# Altium footprint library Actel Footprints.PcbLib: 111 footprints (part 3 of 10)
Each footprint in its own frame and in the unit in brackets; x right, y up, seen from the top. Pads: shape width x height; smd on the part's side, far side on the other; paste and mask are expansions set on the pad; w line width, h text height; cw(c..) or ccw(c..) is an arc to the next point about the centre after c.
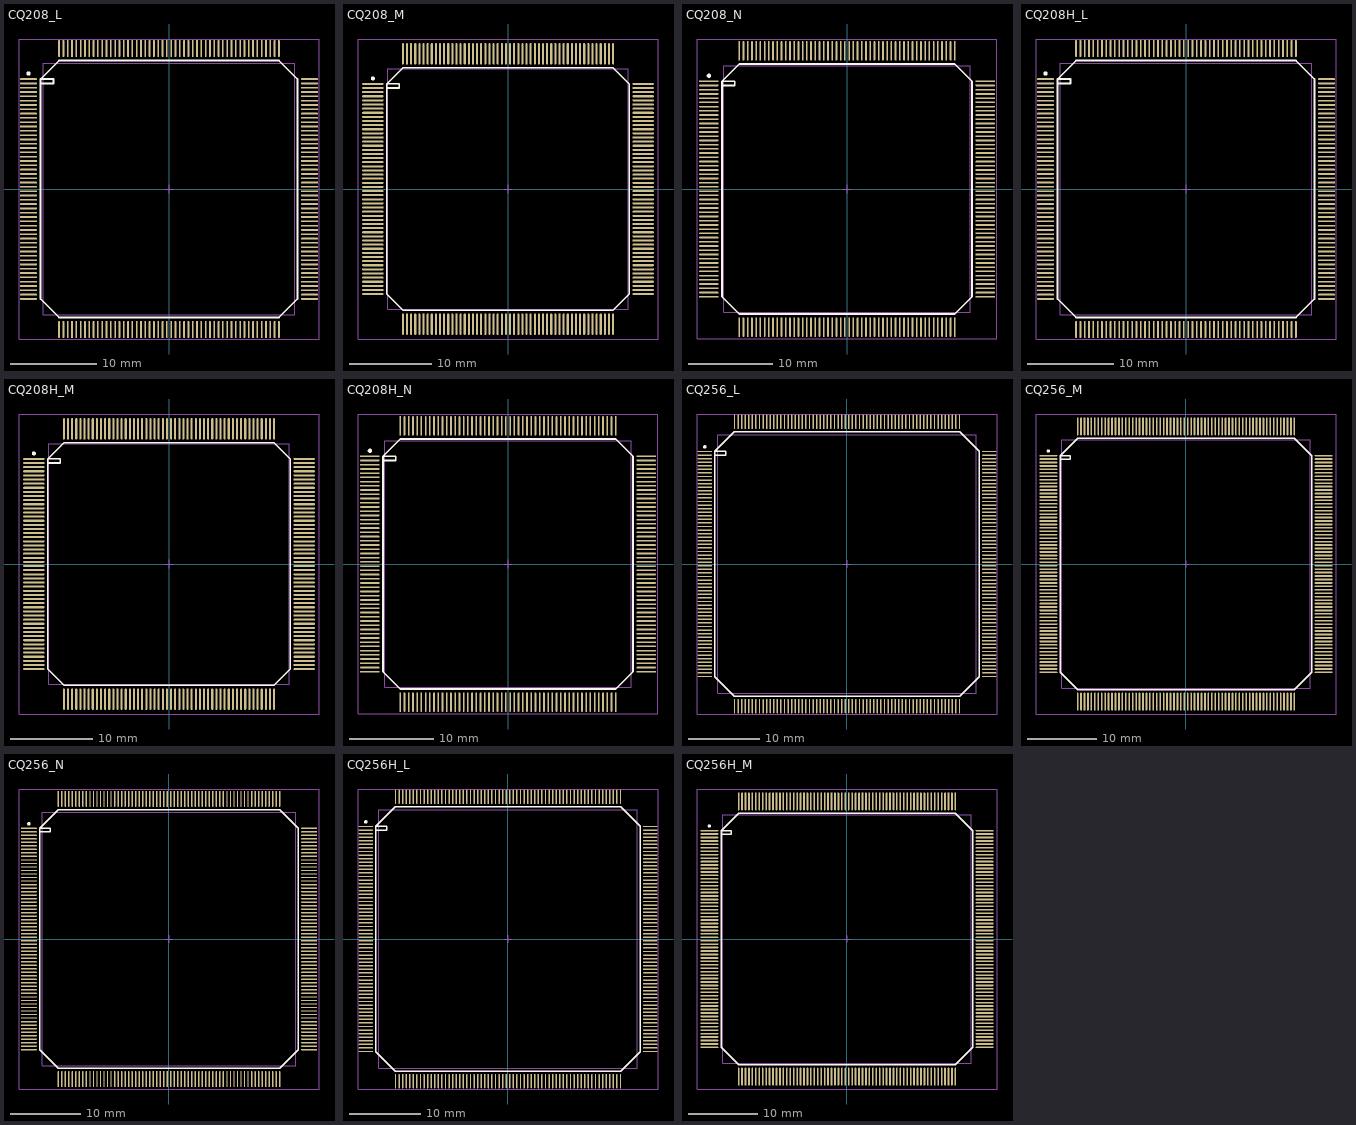
[diagram p2: the footprints below, top view; thin cyan lines are the x and y axes]

## CQ208_L [mm] "208-Pin Ceramic Quad Flat Pack (CQFP), IPC High Density"
height 3.3
pads (208):
  oval 2x0.2 smd: 1(-16.3,12.75) 2(-16.3,12.25) 3(-16.3,11.75) 4(-16.3,11.25) 5(-16.3,10.75) 6(-16.3,10.25) 7(-16.3,9.75) 8(-16.3,9.25) 9(-16.3,8.75) 10(-16.3,8.25) 11(-16.3,7.75) 12(-16.3,7.25) 13(-16.3,6.75) 14(-16.3,6.25) 15(-16.3,5.75) 16(-16.3,5.25) 17(-16.3,4.75) 18(-16.3,4.25) 19(-16.3,3.75) 20(-16.3,3.25) 21(-16.3,2.75) 22(-16.3,2.25) 23(-16.3,1.75) 24(-16.3,1.25) 25(-16.3,0.75) 26(-16.3,0.25) 27(-16.3,-0.25) 28(-16.3,-0.75) 29(-16.3,-1.25) 30(-16.3,-1.75) 31(-16.3,-2.25) 32(-16.3,-2.75) 33(-16.3,-3.25) 34(-16.3,-3.75) 35(-16.3,-4.25) 36(-16.3,-4.75) 37(-16.3,-5.25) 38(-16.3,-5.75) 39(-16.3,-6.25) 40(-16.3,-6.75) 41(-16.3,-7.25) 42(-16.3,-7.75) 43(-16.3,-8.25) 44(-16.3,-8.75) 45(-16.3,-9.25) 46(-16.3,-9.75) 47(-16.3,-10.25) 48(-16.3,-10.75) 49(-16.3,-11.25) 50(-16.3,-11.75) 51(-16.3,-12.25) 52(-16.3,-12.75) 105(16.3,-12.75) 106(16.3,-12.25) 107(16.3,-11.75) 108(16.3,-11.25) 109(16.3,-10.75) 110(16.3,-10.25) 111(16.3,-9.75) 112(16.3,-9.25) 113(16.3,-8.75) 114(16.3,-8.25) 115(16.3,-7.75) 116(16.3,-7.25) 117(16.3,-6.75) 118(16.3,-6.25) 119(16.3,-5.75) 120(16.3,-5.25) 121(16.3,-4.75) 122(16.3,-4.25) 123(16.3,-3.75) 124(16.3,-3.25) 125(16.3,-2.75) 126(16.3,-2.25) 127(16.3,-1.75) 128(16.3,-1.25) 129(16.3,-0.75) 130(16.3,-0.25) 131(16.3,0.25) 132(16.3,0.75) 133(16.3,1.25) 134(16.3,1.75) 135(16.3,2.25) 136(16.3,2.75) 137(16.3,3.25) 138(16.3,3.75) 139(16.3,4.25) 140(16.3,4.75) 141(16.3,5.25) 142(16.3,5.75) 143(16.3,6.25) 144(16.3,6.75) 145(16.3,7.25) 146(16.3,7.75) 147(16.3,8.25) 148(16.3,8.75) 149(16.3,9.25) 150(16.3,9.75) 151(16.3,10.25) 152(16.3,10.75) 153(16.3,11.25) 154(16.3,11.75) 155(16.3,12.25) 156(16.3,12.75)
  oval 0.2x2 smd: 53(-12.75,-16.3) 54(-12.25,-16.3) 55(-11.75,-16.3) 56(-11.25,-16.3) 57(-10.75,-16.3) 58(-10.25,-16.3) 59(-9.75,-16.3) 60(-9.25,-16.3) 61(-8.75,-16.3) 62(-8.25,-16.3) 63(-7.75,-16.3) 64(-7.25,-16.3) 65(-6.75,-16.3) 66(-6.25,-16.3) 67(-5.75,-16.3) 68(-5.25,-16.3) 69(-4.75,-16.3) 70(-4.25,-16.3) 71(-3.75,-16.3) 72(-3.25,-16.3) 73(-2.75,-16.3) 74(-2.25,-16.3) 75(-1.75,-16.3) 76(-1.25,-16.3) 77(-0.75,-16.3) 78(-0.25,-16.3) 79(0.25,-16.3) 80(0.75,-16.3) 81(1.25,-16.3) 82(1.75,-16.3) 83(2.25,-16.3) 84(2.75,-16.3) 85(3.25,-16.3) 86(3.75,-16.3) 87(4.25,-16.3) 88(4.75,-16.3) 89(5.25,-16.3) 90(5.75,-16.3) 91(6.25,-16.3) 92(6.75,-16.3) 93(7.25,-16.3) 94(7.75,-16.3) 95(8.25,-16.3) 96(8.75,-16.3) 97(9.25,-16.3) 98(9.75,-16.3) 99(10.25,-16.3) 100(10.75,-16.3) 101(11.25,-16.3) 102(11.75,-16.3) 103(12.25,-16.3) 104(12.75,-16.3) 157(12.75,16.3) 158(12.25,16.3) 159(11.75,16.3) 160(11.25,16.3) 161(10.75,16.3) 162(10.25,16.3) 163(9.75,16.3) 164(9.25,16.3) 165(8.75,16.3) 166(8.25,16.3) 167(7.75,16.3) 168(7.25,16.3) 169(6.75,16.3) 170(6.25,16.3) 171(5.75,16.3) 172(5.25,16.3) 173(4.75,16.3) 174(4.25,16.3) 175(3.75,16.3) 176(3.25,16.3) 177(2.75,16.3) 178(2.25,16.3) 179(1.75,16.3) 180(1.25,16.3) 181(0.75,16.3) 182(0.25,16.3) 183(-0.25,16.3) 184(-0.75,16.3) 185(-1.25,16.3) 186(-1.75,16.3) 187(-2.25,16.3) 188(-2.75,16.3) 189(-3.25,16.3) 190(-3.75,16.3) 191(-4.25,16.3) 192(-4.75,16.3) 193(-5.25,16.3) 194(-5.75,16.3) 195(-6.25,16.3) 196(-6.75,16.3) 197(-7.25,16.3) 198(-7.75,16.3) 199(-8.25,16.3) 200(-8.75,16.3) 201(-9.25,16.3) 202(-9.75,16.3) 203(-10.25,16.3) 204(-10.75,16.3) 205(-11.25,16.3) 206(-11.75,16.3) 207(-12.25,16.3) 208(-12.75,16.3)
Top Overlay:
  circle w0.25: c-16.3,13.4 r0.125
  lines w0.2: -14.9,12.25 -13.4,12.25 -13.4,12.75 -14.9,12.75 ; -14.9,12.75 -14.9,-12.75 -12.75,-14.9 12.75,-14.9 14.9,-12.75 14.9,12.75 12.75,14.9 -12.75,14.9 -14.9,12.75
Mechanical 13:
  lines w0.1: -14.605,-14.605 -14.605,14.605 14.605,14.605 14.605,-14.605 -14.605,-14.605
Mechanical 15:
  lines w0.1: -0.5,0 0.5,0 ; 0,-0.5 0,0.5 ; -17.4,-17.4 -17.4,17.4 17.4,17.4 17.4,-17.4 -17.4,-17.4
3D body: height 3.3, standoff 0, extent -14.605,-14.605 14.605,14.605

## CQ208_M [mm] "208-Pin Ceramic Quad Flat Pack (CQFP), IPC Low Density"
height 3.3
pads (208):
  oval 2.6x0.25 smd: 1(-16.4,12.75) 2(-16.4,12.25) 3(-16.4,11.75) 4(-16.4,11.25) 5(-16.4,10.75) 6(-16.4,10.25) 7(-16.4,9.75) 8(-16.4,9.25) 9(-16.4,8.75) 10(-16.4,8.25) 11(-16.4,7.75) 12(-16.4,7.25) 13(-16.4,6.75) 14(-16.4,6.25) 15(-16.4,5.75) 16(-16.4,5.25) 17(-16.4,4.75) 18(-16.4,4.25) 19(-16.4,3.75) 20(-16.4,3.25) 21(-16.4,2.75) 22(-16.4,2.25) 23(-16.4,1.75) 24(-16.4,1.25) 25(-16.4,0.75) 26(-16.4,0.25) 27(-16.4,-0.25) 28(-16.4,-0.75) 29(-16.4,-1.25) 30(-16.4,-1.75) 31(-16.4,-2.25) 32(-16.4,-2.75) 33(-16.4,-3.25) 34(-16.4,-3.75) 35(-16.4,-4.25) 36(-16.4,-4.75) 37(-16.4,-5.25) 38(-16.4,-5.75) 39(-16.4,-6.25) 40(-16.4,-6.75) 41(-16.4,-7.25) 42(-16.4,-7.75) 43(-16.4,-8.25) 44(-16.4,-8.75) 45(-16.4,-9.25) 46(-16.4,-9.75) 47(-16.4,-10.25) 48(-16.4,-10.75) 49(-16.4,-11.25) 50(-16.4,-11.75) 51(-16.4,-12.25) 52(-16.4,-12.75) 105(16.4,-12.75) 106(16.4,-12.25) 107(16.4,-11.75) 108(16.4,-11.25) 109(16.4,-10.75) 110(16.4,-10.25) 111(16.4,-9.75) 112(16.4,-9.25) 113(16.4,-8.75) 114(16.4,-8.25) 115(16.4,-7.75) 116(16.4,-7.25) 117(16.4,-6.75) 118(16.4,-6.25) 119(16.4,-5.75) 120(16.4,-5.25) 121(16.4,-4.75) 122(16.4,-4.25) 123(16.4,-3.75) 124(16.4,-3.25) 125(16.4,-2.75) 126(16.4,-2.25) 127(16.4,-1.75) 128(16.4,-1.25) 129(16.4,-0.75) 130(16.4,-0.25) 131(16.4,0.25) 132(16.4,0.75) 133(16.4,1.25) 134(16.4,1.75) 135(16.4,2.25) 136(16.4,2.75) 137(16.4,3.25) 138(16.4,3.75) 139(16.4,4.25) 140(16.4,4.75) 141(16.4,5.25) 142(16.4,5.75) 143(16.4,6.25) 144(16.4,6.75) 145(16.4,7.25) 146(16.4,7.75) 147(16.4,8.25) 148(16.4,8.75) 149(16.4,9.25) 150(16.4,9.75) 151(16.4,10.25) 152(16.4,10.75) 153(16.4,11.25) 154(16.4,11.75) 155(16.4,12.25) 156(16.4,12.75)
  oval 0.25x2.6 smd: 53(-12.75,-16.4) 54(-12.25,-16.4) 55(-11.75,-16.4) 56(-11.25,-16.4) 57(-10.75,-16.4) 58(-10.25,-16.4) 59(-9.75,-16.4) 60(-9.25,-16.4) 61(-8.75,-16.4) 62(-8.25,-16.4) 63(-7.75,-16.4) 64(-7.25,-16.4) 65(-6.75,-16.4) 66(-6.25,-16.4) 67(-5.75,-16.4) 68(-5.25,-16.4) 69(-4.75,-16.4) 70(-4.25,-16.4) 71(-3.75,-16.4) 72(-3.25,-16.4) 73(-2.75,-16.4) 74(-2.25,-16.4) 75(-1.75,-16.4) 76(-1.25,-16.4) 77(-0.75,-16.4) 78(-0.25,-16.4) 79(0.25,-16.4) 80(0.75,-16.4) 81(1.25,-16.4) 82(1.75,-16.4) 83(2.25,-16.4) 84(2.75,-16.4) 85(3.25,-16.4) 86(3.75,-16.4) 87(4.25,-16.4) 88(4.75,-16.4) 89(5.25,-16.4) 90(5.75,-16.4) 91(6.25,-16.4) 92(6.75,-16.4) 93(7.25,-16.4) 94(7.75,-16.4) 95(8.25,-16.4) 96(8.75,-16.4) 97(9.25,-16.4) 98(9.75,-16.4) 99(10.25,-16.4) 100(10.75,-16.4) 101(11.25,-16.4) 102(11.75,-16.4) 103(12.25,-16.4) 104(12.75,-16.4) 157(12.75,16.4) 158(12.25,16.4) 159(11.75,16.4) 160(11.25,16.4) 161(10.75,16.4) 162(10.25,16.4) 163(9.75,16.4) 164(9.25,16.4) 165(8.75,16.4) 166(8.25,16.4) 167(7.75,16.4) 168(7.25,16.4) 169(6.75,16.4) 170(6.25,16.4) 171(5.75,16.4) 172(5.25,16.4) 173(4.75,16.4) 174(4.25,16.4) 175(3.75,16.4) 176(3.25,16.4) 177(2.75,16.4) 178(2.25,16.4) 179(1.75,16.4) 180(1.25,16.4) 181(0.75,16.4) 182(0.25,16.4) 183(-0.25,16.4) 184(-0.75,16.4) 185(-1.25,16.4) 186(-1.75,16.4) 187(-2.25,16.4) 188(-2.75,16.4) 189(-3.25,16.4) 190(-3.75,16.4) 191(-4.25,16.4) 192(-4.75,16.4) 193(-5.25,16.4) 194(-5.75,16.4) 195(-6.25,16.4) 196(-6.75,16.4) 197(-7.25,16.4) 198(-7.75,16.4) 199(-8.25,16.4) 200(-8.75,16.4) 201(-9.25,16.4) 202(-9.75,16.4) 203(-10.25,16.4) 204(-10.75,16.4) 205(-11.25,16.4) 206(-11.75,16.4) 207(-12.25,16.4) 208(-12.75,16.4)
Top Overlay:
  circle w0.25: c-16.4,13.425 r0.125
  lines w0.2: -14.7,12.25 -13.2,12.25 -13.2,12.75 -14.7,12.75 ; -14.7,12.75 -14.7,-12.75 -12.75,-14.7 12.75,-14.7 14.7,-12.75 14.7,12.75 12.75,14.7 -12.75,14.7 -14.7,12.75
Mechanical 13:
  lines w0.1: -14.605,-14.605 -14.605,14.605 14.605,14.605 14.605,-14.605 -14.605,-14.605
Mechanical 15:
  lines w0.1: -0.5,0 0.5,0 ; 0,-0.5 0,0.5 ; -18.2,-18.2 -18.2,18.2 18.2,18.2 18.2,-18.2 -18.2,-18.2
3D body: height 3.3, standoff 0, extent -14.605,-14.605 14.605,14.605

## CQ208_N [mm] "208-Pin Ceramic Quad Flat Pack (CQFP), IPC Medium Density"
height 3.3
pads (208):
  oval 2.3x0.2 smd: 1(-16.35,12.75) 2(-16.35,12.25) 3(-16.35,11.75) 4(-16.35,11.25) 5(-16.35,10.75) 6(-16.35,10.25) 7(-16.35,9.75) 8(-16.35,9.25) 9(-16.35,8.75) 10(-16.35,8.25) 11(-16.35,7.75) 12(-16.35,7.25) 13(-16.35,6.75) 14(-16.35,6.25) 15(-16.35,5.75) 16(-16.35,5.25) 17(-16.35,4.75) 18(-16.35,4.25) 19(-16.35,3.75) 20(-16.35,3.25) 21(-16.35,2.75) 22(-16.35,2.25) 23(-16.35,1.75) 24(-16.35,1.25) 25(-16.35,0.75) 26(-16.35,0.25) 27(-16.35,-0.25) 28(-16.35,-0.75) 29(-16.35,-1.25) 30(-16.35,-1.75) 31(-16.35,-2.25) 32(-16.35,-2.75) 33(-16.35,-3.25) 34(-16.35,-3.75) 35(-16.35,-4.25) 36(-16.35,-4.75) 37(-16.35,-5.25) 38(-16.35,-5.75) 39(-16.35,-6.25) 40(-16.35,-6.75) 41(-16.35,-7.25) 42(-16.35,-7.75) 43(-16.35,-8.25) 44(-16.35,-8.75) 45(-16.35,-9.25) 46(-16.35,-9.75) 47(-16.35,-10.25) 48(-16.35,-10.75) 49(-16.35,-11.25) 50(-16.35,-11.75) 51(-16.35,-12.25) 52(-16.35,-12.75) 105(16.35,-12.75) 106(16.35,-12.25) 107(16.35,-11.75) 108(16.35,-11.25) 109(16.35,-10.75) 110(16.35,-10.25) 111(16.35,-9.75) 112(16.35,-9.25) 113(16.35,-8.75) 114(16.35,-8.25) 115(16.35,-7.75) 116(16.35,-7.25) 117(16.35,-6.75) 118(16.35,-6.25) 119(16.35,-5.75) 120(16.35,-5.25) 121(16.35,-4.75) 122(16.35,-4.25) 123(16.35,-3.75) 124(16.35,-3.25) 125(16.35,-2.75) 126(16.35,-2.25) 127(16.35,-1.75) 128(16.35,-1.25) 129(16.35,-0.75) 130(16.35,-0.25) 131(16.35,0.25) 132(16.35,0.75) 133(16.35,1.25) 134(16.35,1.75) 135(16.35,2.25) 136(16.35,2.75) 137(16.35,3.25) 138(16.35,3.75) 139(16.35,4.25) 140(16.35,4.75) 141(16.35,5.25) 142(16.35,5.75) 143(16.35,6.25) 144(16.35,6.75) 145(16.35,7.25) 146(16.35,7.75) 147(16.35,8.25) 148(16.35,8.75) 149(16.35,9.25) 150(16.35,9.75) 151(16.35,10.25) 152(16.35,10.75) 153(16.35,11.25) 154(16.35,11.75) 155(16.35,12.25) 156(16.35,12.75)
  oval 0.2x2.3 smd: 53(-12.75,-16.35) 54(-12.25,-16.35) 55(-11.75,-16.35) 56(-11.25,-16.35) 57(-10.75,-16.35) 58(-10.25,-16.35) 59(-9.75,-16.35) 60(-9.25,-16.35) 61(-8.75,-16.35) 62(-8.25,-16.35) 63(-7.75,-16.35) 64(-7.25,-16.35) 65(-6.75,-16.35) 66(-6.25,-16.35) 67(-5.75,-16.35) 68(-5.25,-16.35) 69(-4.75,-16.35) 70(-4.25,-16.35) 71(-3.75,-16.35) 72(-3.25,-16.35) 73(-2.75,-16.35) 74(-2.25,-16.35) 75(-1.75,-16.35) 76(-1.25,-16.35) 77(-0.75,-16.35) 78(-0.25,-16.35) 79(0.25,-16.35) 80(0.75,-16.35) 81(1.25,-16.35) 82(1.75,-16.35) 83(2.25,-16.35) 84(2.75,-16.35) 85(3.25,-16.35) 86(3.75,-16.35) 87(4.25,-16.35) 88(4.75,-16.35) 89(5.25,-16.35) 90(5.75,-16.35) 91(6.25,-16.35) 92(6.75,-16.35) 93(7.25,-16.35) 94(7.75,-16.35) 95(8.25,-16.35) 96(8.75,-16.35) 97(9.25,-16.35) 98(9.75,-16.35) 99(10.25,-16.35) 100(10.75,-16.35) 101(11.25,-16.35) 102(11.75,-16.35) 103(12.25,-16.35) 104(12.75,-16.35) 157(12.75,16.35) 158(12.25,16.35) 159(11.75,16.35) 160(11.25,16.35) 161(10.75,16.35) 162(10.25,16.35) 163(9.75,16.35) 164(9.25,16.35) 165(8.75,16.35) 166(8.25,16.35) 167(7.75,16.35) 168(7.25,16.35) 169(6.75,16.35) 170(6.25,16.35) 171(5.75,16.35) 172(5.25,16.35) 173(4.75,16.35) 174(4.25,16.35) 175(3.75,16.35) 176(3.25,16.35) 177(2.75,16.35) 178(2.25,16.35) 179(1.75,16.35) 180(1.25,16.35) 181(0.75,16.35) 182(0.25,16.35) 183(-0.25,16.35) 184(-0.75,16.35) 185(-1.25,16.35) 186(-1.75,16.35) 187(-2.25,16.35) 188(-2.75,16.35) 189(-3.25,16.35) 190(-3.75,16.35) 191(-4.25,16.35) 192(-4.75,16.35) 193(-5.25,16.35) 194(-5.75,16.35) 195(-6.25,16.35) 196(-6.75,16.35) 197(-7.25,16.35) 198(-7.75,16.35) 199(-8.25,16.35) 200(-8.75,16.35) 201(-9.25,16.35) 202(-9.75,16.35) 203(-10.25,16.35) 204(-10.75,16.35) 205(-11.25,16.35) 206(-11.75,16.35) 207(-12.25,16.35) 208(-12.75,16.35)
Top Overlay:
  circle w0.25: c-16.35,13.4 r0.125
  lines w0.2: -14.8,12.25 -13.3,12.25 -13.3,12.75 -14.8,12.75 ; -14.8,12.75 -14.8,-12.75 -12.75,-14.8 12.75,-14.8 14.8,-12.75 14.8,12.75 12.75,14.8 -12.75,14.8 -14.8,12.75
Mechanical 13:
  lines w0.1: -14.605,-14.605 -14.605,14.605 14.605,14.605 14.605,-14.605 -14.605,-14.605
Mechanical 15:
  lines w0.1: -0.5,0 0.5,0 ; 0,-0.5 0,0.5 ; -17.75,-17.75 -17.75,17.75 17.75,17.75 17.75,-17.75 -17.75,-17.75
3D body: height 3.3, standoff 0, extent -14.605,-14.605 14.605,14.605

## CQ208H_L [mm] "208-Pin Ceramic Quad Flat Pack (CQFP) with Heat Sink, IPC High Density"
height 3.9
pads (208):
  oval 2x0.2 smd: 1(-16.3,12.75) 2(-16.3,12.25) 3(-16.3,11.75) 4(-16.3,11.25) 5(-16.3,10.75) 6(-16.3,10.25) 7(-16.3,9.75) 8(-16.3,9.25) 9(-16.3,8.75) 10(-16.3,8.25) 11(-16.3,7.75) 12(-16.3,7.25) 13(-16.3,6.75) 14(-16.3,6.25) 15(-16.3,5.75) 16(-16.3,5.25) 17(-16.3,4.75) 18(-16.3,4.25) 19(-16.3,3.75) 20(-16.3,3.25) 21(-16.3,2.75) 22(-16.3,2.25) 23(-16.3,1.75) 24(-16.3,1.25) 25(-16.3,0.75) 26(-16.3,0.25) 27(-16.3,-0.25) 28(-16.3,-0.75) 29(-16.3,-1.25) 30(-16.3,-1.75) 31(-16.3,-2.25) 32(-16.3,-2.75) 33(-16.3,-3.25) 34(-16.3,-3.75) 35(-16.3,-4.25) 36(-16.3,-4.75) 37(-16.3,-5.25) 38(-16.3,-5.75) 39(-16.3,-6.25) 40(-16.3,-6.75) 41(-16.3,-7.25) 42(-16.3,-7.75) 43(-16.3,-8.25) 44(-16.3,-8.75) 45(-16.3,-9.25) 46(-16.3,-9.75) 47(-16.3,-10.25) 48(-16.3,-10.75) 49(-16.3,-11.25) 50(-16.3,-11.75) 51(-16.3,-12.25) 52(-16.3,-12.75) 105(16.3,-12.75) 106(16.3,-12.25) 107(16.3,-11.75) 108(16.3,-11.25) 109(16.3,-10.75) 110(16.3,-10.25) 111(16.3,-9.75) 112(16.3,-9.25) 113(16.3,-8.75) 114(16.3,-8.25) 115(16.3,-7.75) 116(16.3,-7.25) 117(16.3,-6.75) 118(16.3,-6.25) 119(16.3,-5.75) 120(16.3,-5.25) 121(16.3,-4.75) 122(16.3,-4.25) 123(16.3,-3.75) 124(16.3,-3.25) 125(16.3,-2.75) 126(16.3,-2.25) 127(16.3,-1.75) 128(16.3,-1.25) 129(16.3,-0.75) 130(16.3,-0.25) 131(16.3,0.25) 132(16.3,0.75) 133(16.3,1.25) 134(16.3,1.75) 135(16.3,2.25) 136(16.3,2.75) 137(16.3,3.25) 138(16.3,3.75) 139(16.3,4.25) 140(16.3,4.75) 141(16.3,5.25) 142(16.3,5.75) 143(16.3,6.25) 144(16.3,6.75) 145(16.3,7.25) 146(16.3,7.75) 147(16.3,8.25) 148(16.3,8.75) 149(16.3,9.25) 150(16.3,9.75) 151(16.3,10.25) 152(16.3,10.75) 153(16.3,11.25) 154(16.3,11.75) 155(16.3,12.25) 156(16.3,12.75)
  oval 0.2x2 smd: 53(-12.75,-16.3) 54(-12.25,-16.3) 55(-11.75,-16.3) 56(-11.25,-16.3) 57(-10.75,-16.3) 58(-10.25,-16.3) 59(-9.75,-16.3) 60(-9.25,-16.3) 61(-8.75,-16.3) 62(-8.25,-16.3) 63(-7.75,-16.3) 64(-7.25,-16.3) 65(-6.75,-16.3) 66(-6.25,-16.3) 67(-5.75,-16.3) 68(-5.25,-16.3) 69(-4.75,-16.3) 70(-4.25,-16.3) 71(-3.75,-16.3) 72(-3.25,-16.3) 73(-2.75,-16.3) 74(-2.25,-16.3) 75(-1.75,-16.3) 76(-1.25,-16.3) 77(-0.75,-16.3) 78(-0.25,-16.3) 79(0.25,-16.3) 80(0.75,-16.3) 81(1.25,-16.3) 82(1.75,-16.3) 83(2.25,-16.3) 84(2.75,-16.3) 85(3.25,-16.3) 86(3.75,-16.3) 87(4.25,-16.3) 88(4.75,-16.3) 89(5.25,-16.3) 90(5.75,-16.3) 91(6.25,-16.3) 92(6.75,-16.3) 93(7.25,-16.3) 94(7.75,-16.3) 95(8.25,-16.3) 96(8.75,-16.3) 97(9.25,-16.3) 98(9.75,-16.3) 99(10.25,-16.3) 100(10.75,-16.3) 101(11.25,-16.3) 102(11.75,-16.3) 103(12.25,-16.3) 104(12.75,-16.3) 157(12.75,16.3) 158(12.25,16.3) 159(11.75,16.3) 160(11.25,16.3) 161(10.75,16.3) 162(10.25,16.3) 163(9.75,16.3) 164(9.25,16.3) 165(8.75,16.3) 166(8.25,16.3) 167(7.75,16.3) 168(7.25,16.3) 169(6.75,16.3) 170(6.25,16.3) 171(5.75,16.3) 172(5.25,16.3) 173(4.75,16.3) 174(4.25,16.3) 175(3.75,16.3) 176(3.25,16.3) 177(2.75,16.3) 178(2.25,16.3) 179(1.75,16.3) 180(1.25,16.3) 181(0.75,16.3) 182(0.25,16.3) 183(-0.25,16.3) 184(-0.75,16.3) 185(-1.25,16.3) 186(-1.75,16.3) 187(-2.25,16.3) 188(-2.75,16.3) 189(-3.25,16.3) 190(-3.75,16.3) 191(-4.25,16.3) 192(-4.75,16.3) 193(-5.25,16.3) 194(-5.75,16.3) 195(-6.25,16.3) 196(-6.75,16.3) 197(-7.25,16.3) 198(-7.75,16.3) 199(-8.25,16.3) 200(-8.75,16.3) 201(-9.25,16.3) 202(-9.75,16.3) 203(-10.25,16.3) 204(-10.75,16.3) 205(-11.25,16.3) 206(-11.75,16.3) 207(-12.25,16.3) 208(-12.75,16.3)
Top Overlay:
  circle w0.25: c-16.3,13.4 r0.125
  lines w0.2: -14.9,12.25 -13.4,12.25 -13.4,12.75 -14.9,12.75 ; -14.9,12.75 -12.75,14.9 12.75,14.9 14.9,12.75 14.9,-12.75 12.75,-14.9 -12.75,-14.9 -14.9,-12.75 -14.9,12.75
Mechanical 13:
  lines w0.1: -14.605,-14.605 14.605,-14.605 14.605,14.605 -14.605,14.605 -14.605,-14.605
Mechanical 15:
  lines w0.1: -0.5,0 0.5,0 ; 0,-0.5 0,0.5 ; -17.4,-17.4 17.4,-17.4 17.4,17.4 -17.4,17.4 -17.4,-17.4
3D body: height 3.9, standoff 0, extent -14.605,-14.605 14.605,14.605

## CQ208H_M [mm] "208-Pin Ceramic Quad Flat Pack (CQFP) with Heat Sink, IPC Low Density"
height 3.9
pads (208):
  oval 2.6x0.25 smd: 1(-16.4,12.75) 2(-16.4,12.25) 3(-16.4,11.75) 4(-16.4,11.25) 5(-16.4,10.75) 6(-16.4,10.25) 7(-16.4,9.75) 8(-16.4,9.25) 9(-16.4,8.75) 10(-16.4,8.25) 11(-16.4,7.75) 12(-16.4,7.25) 13(-16.4,6.75) 14(-16.4,6.25) 15(-16.4,5.75) 16(-16.4,5.25) 17(-16.4,4.75) 18(-16.4,4.25) 19(-16.4,3.75) 20(-16.4,3.25) 21(-16.4,2.75) 22(-16.4,2.25) 23(-16.4,1.75) 24(-16.4,1.25) 25(-16.4,0.75) 26(-16.4,0.25) 27(-16.4,-0.25) 28(-16.4,-0.75) 29(-16.4,-1.25) 30(-16.4,-1.75) 31(-16.4,-2.25) 32(-16.4,-2.75) 33(-16.4,-3.25) 34(-16.4,-3.75) 35(-16.4,-4.25) 36(-16.4,-4.75) 37(-16.4,-5.25) 38(-16.4,-5.75) 39(-16.4,-6.25) 40(-16.4,-6.75) 41(-16.4,-7.25) 42(-16.4,-7.75) 43(-16.4,-8.25) 44(-16.4,-8.75) 45(-16.4,-9.25) 46(-16.4,-9.75) 47(-16.4,-10.25) 48(-16.4,-10.75) 49(-16.4,-11.25) 50(-16.4,-11.75) 51(-16.4,-12.25) 52(-16.4,-12.75) 105(16.4,-12.75) 106(16.4,-12.25) 107(16.4,-11.75) 108(16.4,-11.25) 109(16.4,-10.75) 110(16.4,-10.25) 111(16.4,-9.75) 112(16.4,-9.25) 113(16.4,-8.75) 114(16.4,-8.25) 115(16.4,-7.75) 116(16.4,-7.25) 117(16.4,-6.75) 118(16.4,-6.25) 119(16.4,-5.75) 120(16.4,-5.25) 121(16.4,-4.75) 122(16.4,-4.25) 123(16.4,-3.75) 124(16.4,-3.25) 125(16.4,-2.75) 126(16.4,-2.25) 127(16.4,-1.75) 128(16.4,-1.25) 129(16.4,-0.75) 130(16.4,-0.25) 131(16.4,0.25) 132(16.4,0.75) 133(16.4,1.25) 134(16.4,1.75) 135(16.4,2.25) 136(16.4,2.75) 137(16.4,3.25) 138(16.4,3.75) 139(16.4,4.25) 140(16.4,4.75) 141(16.4,5.25) 142(16.4,5.75) 143(16.4,6.25) 144(16.4,6.75) 145(16.4,7.25) 146(16.4,7.75) 147(16.4,8.25) 148(16.4,8.75) 149(16.4,9.25) 150(16.4,9.75) 151(16.4,10.25) 152(16.4,10.75) 153(16.4,11.25) 154(16.4,11.75) 155(16.4,12.25) 156(16.4,12.75)
  oval 0.25x2.6 smd: 53(-12.75,-16.4) 54(-12.25,-16.4) 55(-11.75,-16.4) 56(-11.25,-16.4) 57(-10.75,-16.4) 58(-10.25,-16.4) 59(-9.75,-16.4) 60(-9.25,-16.4) 61(-8.75,-16.4) 62(-8.25,-16.4) 63(-7.75,-16.4) 64(-7.25,-16.4) 65(-6.75,-16.4) 66(-6.25,-16.4) 67(-5.75,-16.4) 68(-5.25,-16.4) 69(-4.75,-16.4) 70(-4.25,-16.4) 71(-3.75,-16.4) 72(-3.25,-16.4) 73(-2.75,-16.4) 74(-2.25,-16.4) 75(-1.75,-16.4) 76(-1.25,-16.4) 77(-0.75,-16.4) 78(-0.25,-16.4) 79(0.25,-16.4) 80(0.75,-16.4) 81(1.25,-16.4) 82(1.75,-16.4) 83(2.25,-16.4) 84(2.75,-16.4) 85(3.25,-16.4) 86(3.75,-16.4) 87(4.25,-16.4) 88(4.75,-16.4) 89(5.25,-16.4) 90(5.75,-16.4) 91(6.25,-16.4) 92(6.75,-16.4) 93(7.25,-16.4) 94(7.75,-16.4) 95(8.25,-16.4) 96(8.75,-16.4) 97(9.25,-16.4) 98(9.75,-16.4) 99(10.25,-16.4) 100(10.75,-16.4) 101(11.25,-16.4) 102(11.75,-16.4) 103(12.25,-16.4) 104(12.75,-16.4) 157(12.75,16.4) 158(12.25,16.4) 159(11.75,16.4) 160(11.25,16.4) 161(10.75,16.4) 162(10.25,16.4) 163(9.75,16.4) 164(9.25,16.4) 165(8.75,16.4) 166(8.25,16.4) 167(7.75,16.4) 168(7.25,16.4) 169(6.75,16.4) 170(6.25,16.4) 171(5.75,16.4) 172(5.25,16.4) 173(4.75,16.4) 174(4.25,16.4) 175(3.75,16.4) 176(3.25,16.4) 177(2.75,16.4) 178(2.25,16.4) 179(1.75,16.4) 180(1.25,16.4) 181(0.75,16.4) 182(0.25,16.4) 183(-0.25,16.4) 184(-0.75,16.4) 185(-1.25,16.4) 186(-1.75,16.4) 187(-2.25,16.4) 188(-2.75,16.4) 189(-3.25,16.4) 190(-3.75,16.4) 191(-4.25,16.4) 192(-4.75,16.4) 193(-5.25,16.4) 194(-5.75,16.4) 195(-6.25,16.4) 196(-6.75,16.4) 197(-7.25,16.4) 198(-7.75,16.4) 199(-8.25,16.4) 200(-8.75,16.4) 201(-9.25,16.4) 202(-9.75,16.4) 203(-10.25,16.4) 204(-10.75,16.4) 205(-11.25,16.4) 206(-11.75,16.4) 207(-12.25,16.4) 208(-12.75,16.4)
Top Overlay:
  circle w0.25: c-16.4,13.425 r0.125
  lines w0.2: -14.7,12.25 -13.2,12.25 -13.2,12.75 -14.7,12.75 ; -14.7,12.75 -12.75,14.7 12.75,14.7 14.7,12.75 14.7,-12.75 12.75,-14.7 -12.75,-14.7 -14.7,-12.75 -14.7,12.75
Mechanical 13:
  lines w0.1: -14.605,-14.605 14.605,-14.605 14.605,14.605 -14.605,14.605 -14.605,-14.605
Mechanical 15:
  lines w0.1: -0.5,0 0.5,0 ; 0,-0.5 0,0.5 ; -18.2,-18.2 18.2,-18.2 18.2,18.2 -18.2,18.2 -18.2,-18.2
3D body: height 3.9, standoff 0, extent -14.605,-14.605 14.605,14.605

## CQ208H_N [mm] "208-Pin Ceramic Quad Flat Pack (CQFP) with Heat Sink, IPC Medium Density"
height 3.9
pads (208):
  oval 2.3x0.2 smd: 1(-16.35,12.75) 2(-16.35,12.25) 3(-16.35,11.75) 4(-16.35,11.25) 5(-16.35,10.75) 6(-16.35,10.25) 7(-16.35,9.75) 8(-16.35,9.25) 9(-16.35,8.75) 10(-16.35,8.25) 11(-16.35,7.75) 12(-16.35,7.25) 13(-16.35,6.75) 14(-16.35,6.25) 15(-16.35,5.75) 16(-16.35,5.25) 17(-16.35,4.75) 18(-16.35,4.25) 19(-16.35,3.75) 20(-16.35,3.25) 21(-16.35,2.75) 22(-16.35,2.25) 23(-16.35,1.75) 24(-16.35,1.25) 25(-16.35,0.75) 26(-16.35,0.25) 27(-16.35,-0.25) 28(-16.35,-0.75) 29(-16.35,-1.25) 30(-16.35,-1.75) 31(-16.35,-2.25) 32(-16.35,-2.75) 33(-16.35,-3.25) 34(-16.35,-3.75) 35(-16.35,-4.25) 36(-16.35,-4.75) 37(-16.35,-5.25) 38(-16.35,-5.75) 39(-16.35,-6.25) 40(-16.35,-6.75) 41(-16.35,-7.25) 42(-16.35,-7.75) 43(-16.35,-8.25) 44(-16.35,-8.75) 45(-16.35,-9.25) 46(-16.35,-9.75) 47(-16.35,-10.25) 48(-16.35,-10.75) 49(-16.35,-11.25) 50(-16.35,-11.75) 51(-16.35,-12.25) 52(-16.35,-12.75) 105(16.35,-12.75) 106(16.35,-12.25) 107(16.35,-11.75) 108(16.35,-11.25) 109(16.35,-10.75) 110(16.35,-10.25) 111(16.35,-9.75) 112(16.35,-9.25) 113(16.35,-8.75) 114(16.35,-8.25) 115(16.35,-7.75) 116(16.35,-7.25) 117(16.35,-6.75) 118(16.35,-6.25) 119(16.35,-5.75) 120(16.35,-5.25) 121(16.35,-4.75) 122(16.35,-4.25) 123(16.35,-3.75) 124(16.35,-3.25) 125(16.35,-2.75) 126(16.35,-2.25) 127(16.35,-1.75) 128(16.35,-1.25) 129(16.35,-0.75) 130(16.35,-0.25) 131(16.35,0.25) 132(16.35,0.75) 133(16.35,1.25) 134(16.35,1.75) 135(16.35,2.25) 136(16.35,2.75) 137(16.35,3.25) 138(16.35,3.75) 139(16.35,4.25) 140(16.35,4.75) 141(16.35,5.25) 142(16.35,5.75) 143(16.35,6.25) 144(16.35,6.75) 145(16.35,7.25) 146(16.35,7.75) 147(16.35,8.25) 148(16.35,8.75) 149(16.35,9.25) 150(16.35,9.75) 151(16.35,10.25) 152(16.35,10.75) 153(16.35,11.25) 154(16.35,11.75) 155(16.35,12.25) 156(16.35,12.75)
  oval 0.2x2.3 smd: 53(-12.75,-16.35) 54(-12.25,-16.35) 55(-11.75,-16.35) 56(-11.25,-16.35) 57(-10.75,-16.35) 58(-10.25,-16.35) 59(-9.75,-16.35) 60(-9.25,-16.35) 61(-8.75,-16.35) 62(-8.25,-16.35) 63(-7.75,-16.35) 64(-7.25,-16.35) 65(-6.75,-16.35) 66(-6.25,-16.35) 67(-5.75,-16.35) 68(-5.25,-16.35) 69(-4.75,-16.35) 70(-4.25,-16.35) 71(-3.75,-16.35) 72(-3.25,-16.35) 73(-2.75,-16.35) 74(-2.25,-16.35) 75(-1.75,-16.35) 76(-1.25,-16.35) 77(-0.75,-16.35) 78(-0.25,-16.35) 79(0.25,-16.35) 80(0.75,-16.35) 81(1.25,-16.35) 82(1.75,-16.35) 83(2.25,-16.35) 84(2.75,-16.35) 85(3.25,-16.35) 86(3.75,-16.35) 87(4.25,-16.35) 88(4.75,-16.35) 89(5.25,-16.35) 90(5.75,-16.35) 91(6.25,-16.35) 92(6.75,-16.35) 93(7.25,-16.35) 94(7.75,-16.35) 95(8.25,-16.35) 96(8.75,-16.35) 97(9.25,-16.35) 98(9.75,-16.35) 99(10.25,-16.35) 100(10.75,-16.35) 101(11.25,-16.35) 102(11.75,-16.35) 103(12.25,-16.35) 104(12.75,-16.35) 157(12.75,16.35) 158(12.25,16.35) 159(11.75,16.35) 160(11.25,16.35) 161(10.75,16.35) 162(10.25,16.35) 163(9.75,16.35) 164(9.25,16.35) 165(8.75,16.35) 166(8.25,16.35) 167(7.75,16.35) 168(7.25,16.35) 169(6.75,16.35) 170(6.25,16.35) 171(5.75,16.35) 172(5.25,16.35) 173(4.75,16.35) 174(4.25,16.35) 175(3.75,16.35) 176(3.25,16.35) 177(2.75,16.35) 178(2.25,16.35) 179(1.75,16.35) 180(1.25,16.35) 181(0.75,16.35) 182(0.25,16.35) 183(-0.25,16.35) 184(-0.75,16.35) 185(-1.25,16.35) 186(-1.75,16.35) 187(-2.25,16.35) 188(-2.75,16.35) 189(-3.25,16.35) 190(-3.75,16.35) 191(-4.25,16.35) 192(-4.75,16.35) 193(-5.25,16.35) 194(-5.75,16.35) 195(-6.25,16.35) 196(-6.75,16.35) 197(-7.25,16.35) 198(-7.75,16.35) 199(-8.25,16.35) 200(-8.75,16.35) 201(-9.25,16.35) 202(-9.75,16.35) 203(-10.25,16.35) 204(-10.75,16.35) 205(-11.25,16.35) 206(-11.75,16.35) 207(-12.25,16.35) 208(-12.75,16.35)
Top Overlay:
  circle w0.25: c-16.35,13.4 r0.125
  lines w0.2: -14.8,12.25 -13.3,12.25 -13.3,12.75 -14.8,12.75 ; -14.8,12.75 -12.75,14.8 12.75,14.8 14.8,12.75 14.8,-12.75 12.75,-14.8 -12.75,-14.8 -14.8,-12.75 -14.8,12.75
Mechanical 13:
  lines w0.1: -14.605,-14.605 14.605,-14.605 14.605,14.605 -14.605,14.605 -14.605,-14.605
Mechanical 15:
  lines w0.1: -0.5,0 0.5,0 ; 0,-0.5 0,0.5 ; -17.75,-17.75 17.75,-17.75 17.75,17.75 -17.75,17.75 -17.75,-17.75
3D body: height 3.9, standoff 0, extent -14.605,-14.605 14.605,14.605

## CQ256_L [mm] "256-Pin Ceramic Quad Flat Pack (CQFP), IPC High Density"
height 3.3
pads (256):
  oval 2x0.2 smd: 1(-19.9,15.75) 2(-19.9,15.25) 3(-19.9,14.75) 4(-19.9,14.25) 5(-19.9,13.75) 6(-19.9,13.25) 7(-19.9,12.75) 8(-19.9,12.25) 9(-19.9,11.75) 10(-19.9,11.25) 11(-19.9,10.75) 12(-19.9,10.25) 13(-19.9,9.75) 14(-19.9,9.25) 15(-19.9,8.75) 16(-19.9,8.25) 17(-19.9,7.75) 18(-19.9,7.25) 19(-19.9,6.75) 20(-19.9,6.25) 21(-19.9,5.75) 22(-19.9,5.25) 23(-19.9,4.75) 24(-19.9,4.25) 25(-19.9,3.75) 26(-19.9,3.25) 27(-19.9,2.75) 28(-19.9,2.25) 29(-19.9,1.75) 30(-19.9,1.25) 31(-19.9,0.75) 32(-19.9,0.25) 33(-19.9,-0.25) 34(-19.9,-0.75) 35(-19.9,-1.25) 36(-19.9,-1.75) 37(-19.9,-2.25) 38(-19.9,-2.75) 39(-19.9,-3.25) 40(-19.9,-3.75) 41(-19.9,-4.25) 42(-19.9,-4.75) 43(-19.9,-5.25) 44(-19.9,-5.75) 45(-19.9,-6.25) 46(-19.9,-6.75) 47(-19.9,-7.25) 48(-19.9,-7.75) 49(-19.9,-8.25) 50(-19.9,-8.75) 51(-19.9,-9.25) 52(-19.9,-9.75) 53(-19.9,-10.25) 54(-19.9,-10.75) 55(-19.9,-11.25) 56(-19.9,-11.75) 57(-19.9,-12.25) 58(-19.9,-12.75) 59(-19.9,-13.25) 60(-19.9,-13.75) 61(-19.9,-14.25) 62(-19.9,-14.75) 63(-19.9,-15.25) 64(-19.9,-15.75) 129(19.9,-15.75) 130(19.9,-15.25) 131(19.9,-14.75) 132(19.9,-14.25) 133(19.9,-13.75) 134(19.9,-13.25) 135(19.9,-12.75) 136(19.9,-12.25) 137(19.9,-11.75) 138(19.9,-11.25) 139(19.9,-10.75) 140(19.9,-10.25) 141(19.9,-9.75) 142(19.9,-9.25) 143(19.9,-8.75) 144(19.9,-8.25) 145(19.9,-7.75) 146(19.9,-7.25) 147(19.9,-6.75) 148(19.9,-6.25) 149(19.9,-5.75) 150(19.9,-5.25) 151(19.9,-4.75) 152(19.9,-4.25) 153(19.9,-3.75) 154(19.9,-3.25) 155(19.9,-2.75) 156(19.9,-2.25) 157(19.9,-1.75) 158(19.9,-1.25) 159(19.9,-0.75) 160(19.9,-0.25) 161(19.9,0.25) 162(19.9,0.75) 163(19.9,1.25) 164(19.9,1.75) 165(19.9,2.25) 166(19.9,2.75) 167(19.9,3.25) 168(19.9,3.75) 169(19.9,4.25) 170(19.9,4.75) 171(19.9,5.25) 172(19.9,5.75) 173(19.9,6.25) 174(19.9,6.75) 175(19.9,7.25) 176(19.9,7.75) 177(19.9,8.25) 178(19.9,8.75) 179(19.9,9.25) 180(19.9,9.75) 181(19.9,10.25) 182(19.9,10.75) 183(19.9,11.25) 184(19.9,11.75) 185(19.9,12.25) 186(19.9,12.75) 187(19.9,13.25) 188(19.9,13.75) 189(19.9,14.25) 190(19.9,14.75) 191(19.9,15.25) 192(19.9,15.75)
  oval 0.2x2 smd: 65(-15.75,-19.9) 66(-15.25,-19.9) 67(-14.75,-19.9) 68(-14.25,-19.9) 69(-13.75,-19.9) 70(-13.25,-19.9) 71(-12.75,-19.9) 72(-12.25,-19.9) 73(-11.75,-19.9) 74(-11.25,-19.9) 75(-10.75,-19.9) 76(-10.25,-19.9) 77(-9.75,-19.9) 78(-9.25,-19.9) 79(-8.75,-19.9) 80(-8.25,-19.9) 81(-7.75,-19.9) 82(-7.25,-19.9) 83(-6.75,-19.9) 84(-6.25,-19.9) 85(-5.75,-19.9) 86(-5.25,-19.9) 87(-4.75,-19.9) 88(-4.25,-19.9) 89(-3.75,-19.9) 90(-3.25,-19.9) 91(-2.75,-19.9) 92(-2.25,-19.9) 93(-1.75,-19.9) 94(-1.25,-19.9) 95(-0.75,-19.9) 96(-0.25,-19.9) 97(0.25,-19.9) 98(0.75,-19.9) 99(1.25,-19.9) 100(1.75,-19.9) 101(2.25,-19.9) 102(2.75,-19.9) 103(3.25,-19.9) 104(3.75,-19.9) 105(4.25,-19.9) 106(4.75,-19.9) 107(5.25,-19.9) 108(5.75,-19.9) 109(6.25,-19.9) 110(6.75,-19.9) 111(7.25,-19.9) 112(7.75,-19.9) 113(8.25,-19.9) 114(8.75,-19.9) 115(9.25,-19.9) 116(9.75,-19.9) 117(10.25,-19.9) 118(10.75,-19.9) 119(11.25,-19.9) 120(11.75,-19.9) 121(12.25,-19.9) 122(12.75,-19.9) 123(13.25,-19.9) 124(13.75,-19.9) 125(14.25,-19.9) 126(14.75,-19.9) 127(15.25,-19.9) 128(15.75,-19.9) 193(15.75,19.9) 194(15.25,19.9) 195(14.75,19.9) 196(14.25,19.9) 197(13.75,19.9) 198(13.25,19.9) 199(12.75,19.9) 200(12.25,19.9) 201(11.75,19.9) 202(11.25,19.9) 203(10.75,19.9) 204(10.25,19.9) 205(9.75,19.9) 206(9.25,19.9) 207(8.75,19.9) 208(8.25,19.9) 209(7.75,19.9) 210(7.25,19.9) 211(6.75,19.9) 212(6.25,19.9) 213(5.75,19.9) 214(5.25,19.9) 215(4.75,19.9) 216(4.25,19.9) 217(3.75,19.9) 218(3.25,19.9) 219(2.75,19.9) 220(2.25,19.9) 221(1.75,19.9) 222(1.25,19.9) 223(0.75,19.9) 224(0.25,19.9) 225(-0.25,19.9) 226(-0.75,19.9) 227(-1.25,19.9) 228(-1.75,19.9) 229(-2.25,19.9) 230(-2.75,19.9) 231(-3.25,19.9) 232(-3.75,19.9) 233(-4.25,19.9) 234(-4.75,19.9) 235(-5.25,19.9) 236(-5.75,19.9) 237(-6.25,19.9) 238(-6.75,19.9) 239(-7.25,19.9) 240(-7.75,19.9) 241(-8.25,19.9) 242(-8.75,19.9) 243(-9.25,19.9) 244(-9.75,19.9) 245(-10.25,19.9) 246(-10.75,19.9) 247(-11.25,19.9) 248(-11.75,19.9) 249(-12.25,19.9) 250(-12.75,19.9) 251(-13.25,19.9) 252(-13.75,19.9) 253(-14.25,19.9) 254(-14.75,19.9) 255(-15.25,19.9) 256(-15.75,19.9)
Top Overlay:
  circle w0.25: c-19.9,16.4 r0.125
  lines w0.2: -18.5,15.25 -17,15.25 -17,15.75 -18.5,15.75 ; -18.5,15.75 -18.5,-15.75 -15.75,-18.5 15.75,-18.5 18.5,-15.75 18.5,15.75 15.75,18.5 -15.75,18.5 -18.5,15.75
Mechanical 13:
  lines w0.1: -18.07,-18.07 -18.07,18.07 18.07,18.07 18.07,-18.07 -18.07,-18.07
Mechanical 15:
  lines w0.1: -0.5,0 0.5,0 ; 0,-0.5 0,0.5 ; -21,-21 -21,21 21,21 21,-21 -21,-21
3D body: height 3.3, standoff 0, extent -18.07,-18.07 18.07,18.07

## CQ256_M [mm] "256-Pin Ceramic Quad Flat Pack (CQFP), IPC Low Density"
height 3.3
pads (256):
  oval 2.6x0.25 smd: 1(-20,15.75) 2(-20,15.25) 3(-20,14.75) 4(-20,14.25) 5(-20,13.75) 6(-20,13.25) 7(-20,12.75) 8(-20,12.25) 9(-20,11.75) 10(-20,11.25) 11(-20,10.75) 12(-20,10.25) 13(-20,9.75) 14(-20,9.25) 15(-20,8.75) 16(-20,8.25) 17(-20,7.75) 18(-20,7.25) 19(-20,6.75) 20(-20,6.25) 21(-20,5.75) 22(-20,5.25) 23(-20,4.75) 24(-20,4.25) 25(-20,3.75) 26(-20,3.25) 27(-20,2.75) 28(-20,2.25) 29(-20,1.75) 30(-20,1.25) 31(-20,0.75) 32(-20,0.25) 33(-20,-0.25) 34(-20,-0.75) 35(-20,-1.25) 36(-20,-1.75) 37(-20,-2.25) 38(-20,-2.75) 39(-20,-3.25) 40(-20,-3.75) 41(-20,-4.25) 42(-20,-4.75) 43(-20,-5.25) 44(-20,-5.75) 45(-20,-6.25) 46(-20,-6.75) 47(-20,-7.25) 48(-20,-7.75) 49(-20,-8.25) 50(-20,-8.75) 51(-20,-9.25) 52(-20,-9.75) 53(-20,-10.25) 54(-20,-10.75) 55(-20,-11.25) 56(-20,-11.75) 57(-20,-12.25) 58(-20,-12.75) 59(-20,-13.25) 60(-20,-13.75) 61(-20,-14.25) 62(-20,-14.75) 63(-20,-15.25) 64(-20,-15.75) 129(20,-15.75) 130(20,-15.25) 131(20,-14.75) 132(20,-14.25) 133(20,-13.75) 134(20,-13.25) 135(20,-12.75) 136(20,-12.25) 137(20,-11.75) 138(20,-11.25) 139(20,-10.75) 140(20,-10.25) 141(20,-9.75) 142(20,-9.25) 143(20,-8.75) 144(20,-8.25) 145(20,-7.75) 146(20,-7.25) 147(20,-6.75) 148(20,-6.25) 149(20,-5.75) 150(20,-5.25) 151(20,-4.75) 152(20,-4.25) 153(20,-3.75) 154(20,-3.25) 155(20,-2.75) 156(20,-2.25) 157(20,-1.75) 158(20,-1.25) 159(20,-0.75) 160(20,-0.25) 161(20,0.25) 162(20,0.75) 163(20,1.25) 164(20,1.75) 165(20,2.25) 166(20,2.75) 167(20,3.25) 168(20,3.75) 169(20,4.25) 170(20,4.75) 171(20,5.25) 172(20,5.75) 173(20,6.25) 174(20,6.75) 175(20,7.25) 176(20,7.75) 177(20,8.25) 178(20,8.75) 179(20,9.25) 180(20,9.75) 181(20,10.25) 182(20,10.75) 183(20,11.25) 184(20,11.75) 185(20,12.25) 186(20,12.75) 187(20,13.25) 188(20,13.75) 189(20,14.25) 190(20,14.75) 191(20,15.25) 192(20,15.75)
  oval 0.25x2.6 smd: 65(-15.75,-20) 66(-15.25,-20) 67(-14.75,-20) 68(-14.25,-20) 69(-13.75,-20) 70(-13.25,-20) 71(-12.75,-20) 72(-12.25,-20) 73(-11.75,-20) 74(-11.25,-20) 75(-10.75,-20) 76(-10.25,-20) 77(-9.75,-20) 78(-9.25,-20) 79(-8.75,-20) 80(-8.25,-20) 81(-7.75,-20) 82(-7.25,-20) 83(-6.75,-20) 84(-6.25,-20) 85(-5.75,-20) 86(-5.25,-20) 87(-4.75,-20) 88(-4.25,-20) 89(-3.75,-20) 90(-3.25,-20) 91(-2.75,-20) 92(-2.25,-20) 93(-1.75,-20) 94(-1.25,-20) 95(-0.75,-20) 96(-0.25,-20) 97(0.25,-20) 98(0.75,-20) 99(1.25,-20) 100(1.75,-20) 101(2.25,-20) 102(2.75,-20) 103(3.25,-20) 104(3.75,-20) 105(4.25,-20) 106(4.75,-20) 107(5.25,-20) 108(5.75,-20) 109(6.25,-20) 110(6.75,-20) 111(7.25,-20) 112(7.75,-20) 113(8.25,-20) 114(8.75,-20) 115(9.25,-20) 116(9.75,-20) 117(10.25,-20) 118(10.75,-20) 119(11.25,-20) 120(11.75,-20) 121(12.25,-20) 122(12.75,-20) 123(13.25,-20) 124(13.75,-20) 125(14.25,-20) 126(14.75,-20) 127(15.25,-20) 128(15.75,-20) 193(15.75,20) 194(15.25,20) 195(14.75,20) 196(14.25,20) 197(13.75,20) 198(13.25,20) 199(12.75,20) 200(12.25,20) 201(11.75,20) 202(11.25,20) 203(10.75,20) 204(10.25,20) 205(9.75,20) 206(9.25,20) 207(8.75,20) 208(8.25,20) 209(7.75,20) 210(7.25,20) 211(6.75,20) 212(6.25,20) 213(5.75,20) 214(5.25,20) 215(4.75,20) 216(4.25,20) 217(3.75,20) 218(3.25,20) 219(2.75,20) 220(2.25,20) 221(1.75,20) 222(1.25,20) 223(0.75,20) 224(0.25,20) 225(-0.25,20) 226(-0.75,20) 227(-1.25,20) 228(-1.75,20) 229(-2.25,20) 230(-2.75,20) 231(-3.25,20) 232(-3.75,20) 233(-4.25,20) 234(-4.75,20) 235(-5.25,20) 236(-5.75,20) 237(-6.25,20) 238(-6.75,20) 239(-7.25,20) 240(-7.75,20) 241(-8.25,20) 242(-8.75,20) 243(-9.25,20) 244(-9.75,20) 245(-10.25,20) 246(-10.75,20) 247(-11.25,20) 248(-11.75,20) 249(-12.25,20) 250(-12.75,20) 251(-13.25,20) 252(-13.75,20) 253(-14.25,20) 254(-14.75,20) 255(-15.25,20) 256(-15.75,20)
Top Overlay:
  circle w0.25: c-20,16.425 r0.125
  lines w0.2: -18.3,15.25 -16.8,15.25 -16.8,15.75 -18.3,15.75 ; -18.3,15.75 -15.75,18.3 15.75,18.3 18.3,15.75 18.3,-15.75 15.75,-18.3 -15.75,-18.3 -18.3,-15.75 -18.3,15.75
Mechanical 13:
  lines w0.1: -18.07,-18.07 18.07,-18.07 18.07,18.07 -18.07,18.07 -18.07,-18.07
Mechanical 15:
  lines w0.1: -0.5,0 0.5,0 ; 0,-0.5 0,0.5 ; -21.8,-21.8 21.8,-21.8 21.8,21.8 -21.8,21.8 -21.8,-21.8
3D body: height 3.3, standoff 0, extent -18.07,-18.07 18.07,18.07

## CQ256_N [mm] "256-Pin Ceramic Quad Flat Pack (CQFP), IPC Medium Density"
height 3.3
pads (256):
  oval 2.3x0.2 smd: 1(-19.95,15.75) 2(-19.95,15.25) 3(-19.95,14.75) 4(-19.95,14.25) 5(-19.95,13.75) 6(-19.95,13.25) 7(-19.95,12.75) 8(-19.95,12.25) 9(-19.95,11.75) 10(-19.95,11.25) 11(-19.95,10.75) 12(-19.95,10.25) 13(-19.95,9.75) 14(-19.95,9.25) 15(-19.95,8.75) 16(-19.95,8.25) 17(-19.95,7.75) 18(-19.95,7.25) 19(-19.95,6.75) 20(-19.95,6.25) 21(-19.95,5.75) 22(-19.95,5.25) 23(-19.95,4.75) 24(-19.95,4.25) 25(-19.95,3.75) 26(-19.95,3.25) 27(-19.95,2.75) 28(-19.95,2.25) 29(-19.95,1.75) 30(-19.95,1.25) 31(-19.95,0.75) 32(-19.95,0.25) 33(-19.95,-0.25) 34(-19.95,-0.75) 35(-19.95,-1.25) 36(-19.95,-1.75) 37(-19.95,-2.25) 38(-19.95,-2.75) 39(-19.95,-3.25) 40(-19.95,-3.75) 41(-19.95,-4.25) 42(-19.95,-4.75) 43(-19.95,-5.25) 44(-19.95,-5.75) 45(-19.95,-6.25) 46(-19.95,-6.75) 47(-19.95,-7.25) 48(-19.95,-7.75) 49(-19.95,-8.25) 50(-19.95,-8.75) 51(-19.95,-9.25) 52(-19.95,-9.75) 53(-19.95,-10.25) 54(-19.95,-10.75) 55(-19.95,-11.25) 56(-19.95,-11.75) 57(-19.95,-12.25) 58(-19.95,-12.75) 59(-19.95,-13.25) 60(-19.95,-13.75) 61(-19.95,-14.25) 62(-19.95,-14.75) 63(-19.95,-15.25) 64(-19.95,-15.75) 129(19.95,-15.75) 130(19.95,-15.25) 131(19.95,-14.75) 132(19.95,-14.25) 133(19.95,-13.75) 134(19.95,-13.25) 135(19.95,-12.75) 136(19.95,-12.25) 137(19.95,-11.75) 138(19.95,-11.25) 139(19.95,-10.75) 140(19.95,-10.25) 141(19.95,-9.75) 142(19.95,-9.25) 143(19.95,-8.75) 144(19.95,-8.25) 145(19.95,-7.75) 146(19.95,-7.25) 147(19.95,-6.75) 148(19.95,-6.25) 149(19.95,-5.75) 150(19.95,-5.25) 151(19.95,-4.75) 152(19.95,-4.25) 153(19.95,-3.75) 154(19.95,-3.25) 155(19.95,-2.75) 156(19.95,-2.25) 157(19.95,-1.75) 158(19.95,-1.25) 159(19.95,-0.75) 160(19.95,-0.25) 161(19.95,0.25) 162(19.95,0.75) 163(19.95,1.25) 164(19.95,1.75) 165(19.95,2.25) 166(19.95,2.75) 167(19.95,3.25) 168(19.95,3.75) 169(19.95,4.25) 170(19.95,4.75) 171(19.95,5.25) 172(19.95,5.75) 173(19.95,6.25) 174(19.95,6.75) 175(19.95,7.25) 176(19.95,7.75) 177(19.95,8.25) 178(19.95,8.75) 179(19.95,9.25) 180(19.95,9.75) 181(19.95,10.25) 182(19.95,10.75) 183(19.95,11.25) 184(19.95,11.75) 185(19.95,12.25) 186(19.95,12.75) 187(19.95,13.25) 188(19.95,13.75) 189(19.95,14.25) 190(19.95,14.75) 191(19.95,15.25) 192(19.95,15.75)
  oval 0.2x2.3 smd: 65(-15.75,-19.95) 66(-15.25,-19.95) 67(-14.75,-19.95) 68(-14.25,-19.95) 69(-13.75,-19.95) 70(-13.25,-19.95) 71(-12.75,-19.95) 72(-12.25,-19.95) 73(-11.75,-19.95) 74(-11.25,-19.95) 75(-10.75,-19.95) 76(-10.25,-19.95) 77(-9.75,-19.95) 78(-9.25,-19.95) 79(-8.75,-19.95) 80(-8.25,-19.95) 81(-7.75,-19.95) 82(-7.25,-19.95) 83(-6.75,-19.95) 84(-6.25,-19.95) 85(-5.75,-19.95) 86(-5.25,-19.95) 87(-4.75,-19.95) 88(-4.25,-19.95) 89(-3.75,-19.95) 90(-3.25,-19.95) 91(-2.75,-19.95) 92(-2.25,-19.95) 93(-1.75,-19.95) 94(-1.25,-19.95) 95(-0.75,-19.95) 96(-0.25,-19.95) 97(0.25,-19.95) 98(0.75,-19.95) 99(1.25,-19.95) 100(1.75,-19.95) 101(2.25,-19.95) 102(2.75,-19.95) 103(3.25,-19.95) 104(3.75,-19.95) 105(4.25,-19.95) 106(4.75,-19.95) 107(5.25,-19.95) 108(5.75,-19.95) 109(6.25,-19.95) 110(6.75,-19.95) 111(7.25,-19.95) 112(7.75,-19.95) 113(8.25,-19.95) 114(8.75,-19.95) 115(9.25,-19.95) 116(9.75,-19.95) 117(10.25,-19.95) 118(10.75,-19.95) 119(11.25,-19.95) 120(11.75,-19.95) 121(12.25,-19.95) 122(12.75,-19.95) 123(13.25,-19.95) 124(13.75,-19.95) 125(14.25,-19.95) 126(14.75,-19.95) 127(15.25,-19.95) 128(15.75,-19.95) 193(15.75,19.95) 194(15.25,19.95) 195(14.75,19.95) 196(14.25,19.95) 197(13.75,19.95) 198(13.25,19.95) 199(12.75,19.95) 200(12.25,19.95) 201(11.75,19.95) 202(11.25,19.95) 203(10.75,19.95) 204(10.25,19.95) 205(9.75,19.95) 206(9.25,19.95) 207(8.75,19.95) 208(8.25,19.95) 209(7.75,19.95) 210(7.25,19.95) 211(6.75,19.95) 212(6.25,19.95) 213(5.75,19.95) 214(5.25,19.95) 215(4.75,19.95) 216(4.25,19.95) 217(3.75,19.95) 218(3.25,19.95) 219(2.75,19.95) 220(2.25,19.95) 221(1.75,19.95) 222(1.25,19.95) 223(0.75,19.95) 224(0.25,19.95) 225(-0.25,19.95) 226(-0.75,19.95) 227(-1.25,19.95) 228(-1.75,19.95) 229(-2.25,19.95) 230(-2.75,19.95) 231(-3.25,19.95) 232(-3.75,19.95) 233(-4.25,19.95) 234(-4.75,19.95) 235(-5.25,19.95) 236(-5.75,19.95) 237(-6.25,19.95) 238(-6.75,19.95) 239(-7.25,19.95) 240(-7.75,19.95) 241(-8.25,19.95) 242(-8.75,19.95) 243(-9.25,19.95) 244(-9.75,19.95) 245(-10.25,19.95) 246(-10.75,19.95) 247(-11.25,19.95) 248(-11.75,19.95) 249(-12.25,19.95) 250(-12.75,19.95) 251(-13.25,19.95) 252(-13.75,19.95) 253(-14.25,19.95) 254(-14.75,19.95) 255(-15.25,19.95) 256(-15.75,19.95)
Top Overlay:
  circle w0.25: c-19.95,16.4 r0.125
  lines w0.2: -18.4,15.25 -16.9,15.25 -16.9,15.75 -18.4,15.75 ; -18.4,15.75 -15.75,18.4 15.75,18.4 18.4,15.75 18.4,-15.75 15.75,-18.4 -15.75,-18.4 -18.4,-15.75 -18.4,15.75
Mechanical 13:
  lines w0.1: -18.07,-18.07 18.07,-18.07 18.07,18.07 -18.07,18.07 -18.07,-18.07
Mechanical 15:
  lines w0.1: -0.5,0 0.5,0 ; 0,-0.5 0,0.5 ; -21.35,-21.35 21.35,-21.35 21.35,21.35 -21.35,21.35 -21.35,-21.35
3D body: height 3.3, standoff 0, extent -18.07,-18.07 18.07,18.07

## CQ256H_L [mm] "256-Pin Ceramic Quad Flat Pack (CQFP) with Heat Sink, IPC High Density"
height 3.9
pads (256):
  oval 2x0.2 smd: 1(-19.9,15.75) 2(-19.9,15.25) 3(-19.9,14.75) 4(-19.9,14.25) 5(-19.9,13.75) 6(-19.9,13.25) 7(-19.9,12.75) 8(-19.9,12.25) 9(-19.9,11.75) 10(-19.9,11.25) 11(-19.9,10.75) 12(-19.9,10.25) 13(-19.9,9.75) 14(-19.9,9.25) 15(-19.9,8.75) 16(-19.9,8.25) 17(-19.9,7.75) 18(-19.9,7.25) 19(-19.9,6.75) 20(-19.9,6.25) 21(-19.9,5.75) 22(-19.9,5.25) 23(-19.9,4.75) 24(-19.9,4.25) 25(-19.9,3.75) 26(-19.9,3.25) 27(-19.9,2.75) 28(-19.9,2.25) 29(-19.9,1.75) 30(-19.9,1.25) 31(-19.9,0.75) 32(-19.9,0.25) 33(-19.9,-0.25) 34(-19.9,-0.75) 35(-19.9,-1.25) 36(-19.9,-1.75) 37(-19.9,-2.25) 38(-19.9,-2.75) 39(-19.9,-3.25) 40(-19.9,-3.75) 41(-19.9,-4.25) 42(-19.9,-4.75) 43(-19.9,-5.25) 44(-19.9,-5.75) 45(-19.9,-6.25) 46(-19.9,-6.75) 47(-19.9,-7.25) 48(-19.9,-7.75) 49(-19.9,-8.25) 50(-19.9,-8.75) 51(-19.9,-9.25) 52(-19.9,-9.75) 53(-19.9,-10.25) 54(-19.9,-10.75) 55(-19.9,-11.25) 56(-19.9,-11.75) 57(-19.9,-12.25) 58(-19.9,-12.75) 59(-19.9,-13.25) 60(-19.9,-13.75) 61(-19.9,-14.25) 62(-19.9,-14.75) 63(-19.9,-15.25) 64(-19.9,-15.75) 129(19.9,-15.75) 130(19.9,-15.25) 131(19.9,-14.75) 132(19.9,-14.25) 133(19.9,-13.75) 134(19.9,-13.25) 135(19.9,-12.75) 136(19.9,-12.25) 137(19.9,-11.75) 138(19.9,-11.25) 139(19.9,-10.75) 140(19.9,-10.25) 141(19.9,-9.75) 142(19.9,-9.25) 143(19.9,-8.75) 144(19.9,-8.25) 145(19.9,-7.75) 146(19.9,-7.25) 147(19.9,-6.75) 148(19.9,-6.25) 149(19.9,-5.75) 150(19.9,-5.25) 151(19.9,-4.75) 152(19.9,-4.25) 153(19.9,-3.75) 154(19.9,-3.25) 155(19.9,-2.75) 156(19.9,-2.25) 157(19.9,-1.75) 158(19.9,-1.25) 159(19.9,-0.75) 160(19.9,-0.25) 161(19.9,0.25) 162(19.9,0.75) 163(19.9,1.25) 164(19.9,1.75) 165(19.9,2.25) 166(19.9,2.75) 167(19.9,3.25) 168(19.9,3.75) 169(19.9,4.25) 170(19.9,4.75) 171(19.9,5.25) 172(19.9,5.75) 173(19.9,6.25) 174(19.9,6.75) 175(19.9,7.25) 176(19.9,7.75) 177(19.9,8.25) 178(19.9,8.75) 179(19.9,9.25) 180(19.9,9.75) 181(19.9,10.25) 182(19.9,10.75) 183(19.9,11.25) 184(19.9,11.75) 185(19.9,12.25) 186(19.9,12.75) 187(19.9,13.25) 188(19.9,13.75) 189(19.9,14.25) 190(19.9,14.75) 191(19.9,15.25) 192(19.9,15.75)
  oval 0.2x2 smd: 65(-15.75,-19.9) 66(-15.25,-19.9) 67(-14.75,-19.9) 68(-14.25,-19.9) 69(-13.75,-19.9) 70(-13.25,-19.9) 71(-12.75,-19.9) 72(-12.25,-19.9) 73(-11.75,-19.9) 74(-11.25,-19.9) 75(-10.75,-19.9) 76(-10.25,-19.9) 77(-9.75,-19.9) 78(-9.25,-19.9) 79(-8.75,-19.9) 80(-8.25,-19.9) 81(-7.75,-19.9) 82(-7.25,-19.9) 83(-6.75,-19.9) 84(-6.25,-19.9) 85(-5.75,-19.9) 86(-5.25,-19.9) 87(-4.75,-19.9) 88(-4.25,-19.9) 89(-3.75,-19.9) 90(-3.25,-19.9) 91(-2.75,-19.9) 92(-2.25,-19.9) 93(-1.75,-19.9) 94(-1.25,-19.9) 95(-0.75,-19.9) 96(-0.25,-19.9) 97(0.25,-19.9) 98(0.75,-19.9) 99(1.25,-19.9) 100(1.75,-19.9) 101(2.25,-19.9) 102(2.75,-19.9) 103(3.25,-19.9) 104(3.75,-19.9) 105(4.25,-19.9) 106(4.75,-19.9) 107(5.25,-19.9) 108(5.75,-19.9) 109(6.25,-19.9) 110(6.75,-19.9) 111(7.25,-19.9) 112(7.75,-19.9) 113(8.25,-19.9) 114(8.75,-19.9) 115(9.25,-19.9) 116(9.75,-19.9) 117(10.25,-19.9) 118(10.75,-19.9) 119(11.25,-19.9) 120(11.75,-19.9) 121(12.25,-19.9) 122(12.75,-19.9) 123(13.25,-19.9) 124(13.75,-19.9) 125(14.25,-19.9) 126(14.75,-19.9) 127(15.25,-19.9) 128(15.75,-19.9) 193(15.75,19.9) 194(15.25,19.9) 195(14.75,19.9) 196(14.25,19.9) 197(13.75,19.9) 198(13.25,19.9) 199(12.75,19.9) 200(12.25,19.9) 201(11.75,19.9) 202(11.25,19.9) 203(10.75,19.9) 204(10.25,19.9) 205(9.75,19.9) 206(9.25,19.9) 207(8.75,19.9) 208(8.25,19.9) 209(7.75,19.9) 210(7.25,19.9) 211(6.75,19.9) 212(6.25,19.9) 213(5.75,19.9) 214(5.25,19.9) 215(4.75,19.9) 216(4.25,19.9) 217(3.75,19.9) 218(3.25,19.9) 219(2.75,19.9) 220(2.25,19.9) 221(1.75,19.9) 222(1.25,19.9) 223(0.75,19.9) 224(0.25,19.9) 225(-0.25,19.9) 226(-0.75,19.9) 227(-1.25,19.9) 228(-1.75,19.9) 229(-2.25,19.9) 230(-2.75,19.9) 231(-3.25,19.9) 232(-3.75,19.9) 233(-4.25,19.9) 234(-4.75,19.9) 235(-5.25,19.9) 236(-5.75,19.9) 237(-6.25,19.9) 238(-6.75,19.9) 239(-7.25,19.9) 240(-7.75,19.9) 241(-8.25,19.9) 242(-8.75,19.9) 243(-9.25,19.9) 244(-9.75,19.9) 245(-10.25,19.9) 246(-10.75,19.9) 247(-11.25,19.9) 248(-11.75,19.9) 249(-12.25,19.9) 250(-12.75,19.9) 251(-13.25,19.9) 252(-13.75,19.9) 253(-14.25,19.9) 254(-14.75,19.9) 255(-15.25,19.9) 256(-15.75,19.9)
Top Overlay:
  circle w0.25: c-19.9,16.4 r0.125
  lines w0.2: -18.5,15.25 -17,15.25 -17,15.75 -18.5,15.75 ; -18.5,15.75 -18.5,-15.75 -15.75,-18.5 15.75,-18.5 18.5,-15.75 18.5,15.75 15.75,18.5 -15.75,18.5 -18.5,15.75
Mechanical 13:
  lines w0.1: -18.07,-18.07 -18.07,18.07 18.07,18.07 18.07,-18.07 -18.07,-18.07
Mechanical 15:
  lines w0.1: -0.5,0 0.5,0 ; 0,-0.5 0,0.5 ; -21,-21 -21,21 21,21 21,-21 -21,-21
3D body: height 3.9, standoff 0, extent -18.07,-18.07 18.07,18.07

## CQ256H_M [mm] "256-Pin Ceramic Quad Flat Pack (CQFP) with Heat Sink, IPC Low Density"
height 3.9
pads (256):
  oval 2.6x0.25 smd: 1(-20,15.75) 2(-20,15.25) 3(-20,14.75) 4(-20,14.25) 5(-20,13.75) 6(-20,13.25) 7(-20,12.75) 8(-20,12.25) 9(-20,11.75) 10(-20,11.25) 11(-20,10.75) 12(-20,10.25) 13(-20,9.75) 14(-20,9.25) 15(-20,8.75) 16(-20,8.25) 17(-20,7.75) 18(-20,7.25) 19(-20,6.75) 20(-20,6.25) 21(-20,5.75) 22(-20,5.25) 23(-20,4.75) 24(-20,4.25) 25(-20,3.75) 26(-20,3.25) 27(-20,2.75) 28(-20,2.25) 29(-20,1.75) 30(-20,1.25) 31(-20,0.75) 32(-20,0.25) 33(-20,-0.25) 34(-20,-0.75) 35(-20,-1.25) 36(-20,-1.75) 37(-20,-2.25) 38(-20,-2.75) 39(-20,-3.25) 40(-20,-3.75) 41(-20,-4.25) 42(-20,-4.75) 43(-20,-5.25) 44(-20,-5.75) 45(-20,-6.25) 46(-20,-6.75) 47(-20,-7.25) 48(-20,-7.75) 49(-20,-8.25) 50(-20,-8.75) 51(-20,-9.25) 52(-20,-9.75) 53(-20,-10.25) 54(-20,-10.75) 55(-20,-11.25) 56(-20,-11.75) 57(-20,-12.25) 58(-20,-12.75) 59(-20,-13.25) 60(-20,-13.75) 61(-20,-14.25) 62(-20,-14.75) 63(-20,-15.25) 64(-20,-15.75) 129(20,-15.75) 130(20,-15.25) 131(20,-14.75) 132(20,-14.25) 133(20,-13.75) 134(20,-13.25) 135(20,-12.75) 136(20,-12.25) 137(20,-11.75) 138(20,-11.25) 139(20,-10.75) 140(20,-10.25) 141(20,-9.75) 142(20,-9.25) 143(20,-8.75) 144(20,-8.25) 145(20,-7.75) 146(20,-7.25) 147(20,-6.75) 148(20,-6.25) 149(20,-5.75) 150(20,-5.25) 151(20,-4.75) 152(20,-4.25) 153(20,-3.75) 154(20,-3.25) 155(20,-2.75) 156(20,-2.25) 157(20,-1.75) 158(20,-1.25) 159(20,-0.75) 160(20,-0.25) 161(20,0.25) 162(20,0.75) 163(20,1.25) 164(20,1.75) 165(20,2.25) 166(20,2.75) 167(20,3.25) 168(20,3.75) 169(20,4.25) 170(20,4.75) 171(20,5.25) 172(20,5.75) 173(20,6.25) 174(20,6.75) 175(20,7.25) 176(20,7.75) 177(20,8.25) 178(20,8.75) 179(20,9.25) 180(20,9.75) 181(20,10.25) 182(20,10.75) 183(20,11.25) 184(20,11.75) 185(20,12.25) 186(20,12.75) 187(20,13.25) 188(20,13.75) 189(20,14.25) 190(20,14.75) 191(20,15.25) 192(20,15.75)
  oval 0.25x2.6 smd: 65(-15.75,-20) 66(-15.25,-20) 67(-14.75,-20) 68(-14.25,-20) 69(-13.75,-20) 70(-13.25,-20) 71(-12.75,-20) 72(-12.25,-20) 73(-11.75,-20) 74(-11.25,-20) 75(-10.75,-20) 76(-10.25,-20) 77(-9.75,-20) 78(-9.25,-20) 79(-8.75,-20) 80(-8.25,-20) 81(-7.75,-20) 82(-7.25,-20) 83(-6.75,-20) 84(-6.25,-20) 85(-5.75,-20) 86(-5.25,-20) 87(-4.75,-20) 88(-4.25,-20) 89(-3.75,-20) 90(-3.25,-20) 91(-2.75,-20) 92(-2.25,-20) 93(-1.75,-20) 94(-1.25,-20) 95(-0.75,-20) 96(-0.25,-20) 97(0.25,-20) 98(0.75,-20) 99(1.25,-20) 100(1.75,-20) 101(2.25,-20) 102(2.75,-20) 103(3.25,-20) 104(3.75,-20) 105(4.25,-20) 106(4.75,-20) 107(5.25,-20) 108(5.75,-20) 109(6.25,-20) 110(6.75,-20) 111(7.25,-20) 112(7.75,-20) 113(8.25,-20) 114(8.75,-20) 115(9.25,-20) 116(9.75,-20) 117(10.25,-20) 118(10.75,-20) 119(11.25,-20) 120(11.75,-20) 121(12.25,-20) 122(12.75,-20) 123(13.25,-20) 124(13.75,-20) 125(14.25,-20) 126(14.75,-20) 127(15.25,-20) 128(15.75,-20) 193(15.75,20) 194(15.25,20) 195(14.75,20) 196(14.25,20) 197(13.75,20) 198(13.25,20) 199(12.75,20) 200(12.25,20) 201(11.75,20) 202(11.25,20) 203(10.75,20) 204(10.25,20) 205(9.75,20) 206(9.25,20) 207(8.75,20) 208(8.25,20) 209(7.75,20) 210(7.25,20) 211(6.75,20) 212(6.25,20) 213(5.75,20) 214(5.25,20) 215(4.75,20) 216(4.25,20) 217(3.75,20) 218(3.25,20) 219(2.75,20) 220(2.25,20) 221(1.75,20) 222(1.25,20) 223(0.75,20) 224(0.25,20) 225(-0.25,20) 226(-0.75,20) 227(-1.25,20) 228(-1.75,20) 229(-2.25,20) 230(-2.75,20) 231(-3.25,20) 232(-3.75,20) 233(-4.25,20) 234(-4.75,20) 235(-5.25,20) 236(-5.75,20) 237(-6.25,20) 238(-6.75,20) 239(-7.25,20) 240(-7.75,20) 241(-8.25,20) 242(-8.75,20) 243(-9.25,20) 244(-9.75,20) 245(-10.25,20) 246(-10.75,20) 247(-11.25,20) 248(-11.75,20) 249(-12.25,20) 250(-12.75,20) 251(-13.25,20) 252(-13.75,20) 253(-14.25,20) 254(-14.75,20) 255(-15.25,20) 256(-15.75,20)
Top Overlay:
  circle w0.25: c-20,16.425 r0.125
  lines w0.2: -18.3,15.25 -16.8,15.25 -16.8,15.75 -18.3,15.75 ; -18.3,15.75 -15.75,18.3 15.75,18.3 18.3,15.75 18.3,-15.75 15.75,-18.3 -15.75,-18.3 -18.3,-15.75 -18.3,15.75
Mechanical 13:
  lines w0.1: -18.07,-18.07 18.07,-18.07 18.07,18.07 -18.07,18.07 -18.07,-18.07
Mechanical 15:
  lines w0.1: -0.5,0 0.5,0 ; 0,-0.5 0,0.5 ; -21.8,-21.8 21.8,-21.8 21.8,21.8 -21.8,21.8 -21.8,-21.8
3D body: height 3.9, standoff 0, extent -18.07,-18.07 18.07,18.07